# Altium schematic symbol library WE-LHMI.SchLib: 193 symbols (part 1 of 4)
Pins are listed as number, name and electrical type; pins without a type are passive.

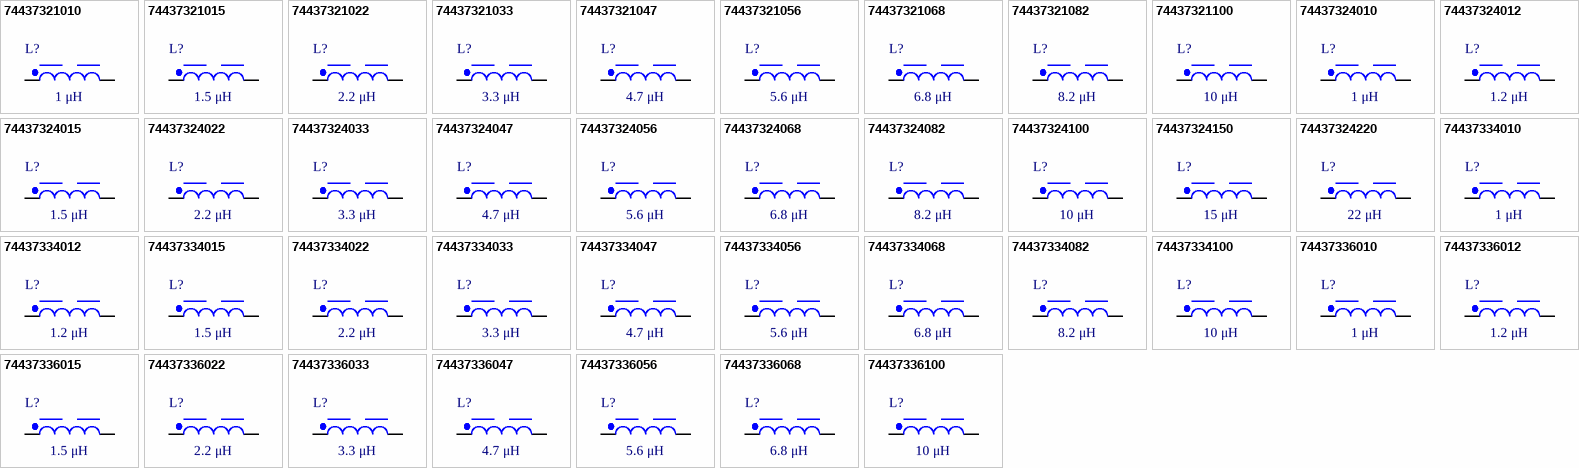
[diagram p0: symbols 74437321010 to 74437336100]

## 74437321010
designator L?, comment 1 μH
WE-LHMI SMT Power Inductor, size 4012, 1 μH, 4.5 A, 47 mΩ; Manufacturer Part Number: 74437321010; Manufacturer: Wurth Elektronik; Case/Size Code: 4012; DC Resistance Max: 47 mΩ; Performance Rated Current: 4.5 A; Saturation Current @ 10%: 5.65 A; Saturation Current @ 30%: 10 A; Self Resonant Frequency: 90 MHz; Category: Power Inductors; Match Code: WE-LHMI; ComponentLink1Description: Website Link; ComponentLink1URL: https://www.we-online.com/redexpert/article/74437321010?ad; ComponentLink2Description: Datasheet Link; ComponentLink2URL: https://www.we-online.com/redexpert/spec/74437321010?ad; Mount: Surface Mount; Min Operating Temperature: -40 °C; Max Operating Temperature: 125 °C; Packaging: Tape and Reel; Length: 4.45 mm; Width: 4.06 mm; Height: 1 mm; Inductance: 1 μH
footprint WE-LHMI_4012
simulation model 4012_74437321010_1u
pins: 1, 2

## 74437321015
designator L?, comment 1.5 μH
WE-LHMI SMT Power Inductor, size 4012, 1.5 μH, 3.9 A, 63.3 mΩ; Manufacturer Part Number: 74437321015; Manufacturer: Wurth Elektronik; Case/Size Code: 4012; DC Resistance Max: 63.3 mΩ; Performance Rated Current: 3.9 A; Saturation Current @ 10%: 2.7 A; Saturation Current @ 30%: 5.1 A; Self Resonant Frequency: 60 MHz; Category: Power Inductors; Match Code: WE-LHMI; ComponentLink1Description: Website Link; ComponentLink1URL: https://www.we-online.com/redexpert/article/74437321015?ad; ComponentLink2Description: Datasheet Link; ComponentLink2URL: https://www.we-online.com/redexpert/spec/74437321015?ad; Mount: Surface Mount; Min Operating Temperature: -40 °C; Max Operating Temperature: 125 °C; Packaging: Tape and Reel; Length: 4.45 mm; Width: 4.06 mm; Height: 1 mm; Inductance: 1.5 μH
footprint WE-LHMI_4012
simulation model 4012_74437321015_1.5u
pins: 1, 2

## 74437321022
designator L?, comment 2.2 μH
WE-LHMI SMT Power Inductor, size 4012, 2.2 μH, 3.5 A, 80 mΩ; Manufacturer Part Number: 74437321022; Manufacturer: Wurth Elektronik; Case/Size Code: 4012; DC Resistance Max: 80 mΩ; Performance Rated Current: 3.5 A; Saturation Current @ 10%: 3.2 A; Saturation Current @ 30%: 6.2 A; Self Resonant Frequency: 55 MHz; Category: Power Inductors; Match Code: WE-LHMI; ComponentLink1Description: Website Link; ComponentLink1URL: https://www.we-online.com/redexpert/article/74437321022?ad; ComponentLink2Description: Datasheet Link; ComponentLink2URL: https://www.we-online.com/redexpert/spec/74437321022?ad; Mount: Surface Mount; Min Operating Temperature: -40 °C; Max Operating Temperature: 125 °C; Packaging: Tape and Reel; Length: 4.45 mm; Width: 4.06 mm; Height: 1 mm; Inductance: 2.2 μH
footprint WE-LHMI_4012
simulation model 4012_74437321022_2.2u
pins: 1, 2

## 74437321033
designator L?, comment 3.3 μH
WE-LHMI SMT Power Inductor, size 4012, 3.3 μH, 3.15 A, 97 mΩ; Manufacturer Part Number: 74437321033; Manufacturer: Wurth Elektronik; Case/Size Code: 4012; DC Resistance Max: 97 mΩ; Performance Rated Current: 3.15 A; Saturation Current @ 10%: 2.6 A; Saturation Current @ 30%: 4.8 A; Self Resonant Frequency: 40 MHz; Category: Power Inductors; Match Code: WE-LHMI; ComponentLink1Description: Website Link; ComponentLink1URL: https://www.we-online.com/redexpert/article/74437321033?ad; ComponentLink2Description: Datasheet Link; ComponentLink2URL: https://www.we-online.com/redexpert/spec/74437321033?ad; Mount: Surface Mount; Min Operating Temperature: -40 °C; Max Operating Temperature: 125 °C; Packaging: Tape and Reel; Length: 4.45 mm; Width: 4.06 mm; Height: 1 mm; Inductance: 3.3 μH
footprint WE-LHMI_4012
simulation model 4012_74437321033_3.3u
pins: 1, 2

## 74437321047
designator L?, comment 4.7 μH
WE-LHMI SMT Power Inductor, size 4012, 4.7 μH, 2.55 A, 145 mΩ; Manufacturer Part Number: 74437321047; Manufacturer: Wurth Elektronik; Case/Size Code: 4012; DC Resistance Max: 145 mΩ; Performance Rated Current: 2.55 A; Saturation Current @ 10%: 2.1 A; Saturation Current @ 30%: 4.1 A; Self Resonant Frequency: 34 MHz; Category: Power Inductors; Match Code: WE-LHMI; ComponentLink1Description: Website Link; ComponentLink1URL: https://www.we-online.com/redexpert/article/74437321047?ad; ComponentLink2Description: Datasheet Link; ComponentLink2URL: https://www.we-online.com/redexpert/spec/74437321047?ad; Mount: Surface Mount; Min Operating Temperature: -40 °C; Max Operating Temperature: 125 °C; Packaging: Tape and Reel; Length: 4.45 mm; Width: 4.06 mm; Height: 1 mm; Inductance: 4.7 μH
footprint WE-LHMI_4012
simulation model 4012_74437321047_4.7u
pins: 1, 2

## 74437321056
designator L?, comment 5.6 μH
WE-LHMI SMT Power Inductor, size 4012, 5.6 μH, 2.15 A, 208 mΩ; Manufacturer Part Number: 74437321056; Manufacturer: Wurth Elektronik; Case/Size Code: 4012; DC Resistance Max: 208 mΩ; Performance Rated Current: 2.15 A; Saturation Current @ 10%: 1.95 A; Saturation Current @ 30%: 3.65 A; Self Resonant Frequency: 28 MHz; Category: Power Inductors; Match Code: WE-LHMI; ComponentLink1Description: Website Link; ComponentLink1URL: https://www.we-online.com/redexpert/article/74437321056?ad; ComponentLink2Description: Datasheet Link; ComponentLink2URL: https://www.we-online.com/redexpert/spec/74437321056?ad; Mount: Surface Mount; Min Operating Temperature: -40 °C; Max Operating Temperature: 125 °C; Packaging: Tape and Reel; Length: 4.45 mm; Width: 4.06 mm; Height: 1 mm; Inductance: 5.6 μH
footprint WE-LHMI_4012
simulation model 4012_74437321056_5.6u
pins: 1, 2

## 74437321068
designator L?, comment 6.8 μH
WE-LHMI SMT Power Inductor, size 4012, 6.8 μH, 1.65 A, 360 mΩ; Manufacturer Part Number: 74437321068; Manufacturer: Wurth Elektronik; Case/Size Code: 4012; DC Resistance Max: 360 mΩ; Performance Rated Current: 1.65 A; Saturation Current @ 30%: 3.05 A; Self Resonant Frequency: 25 MHz; Category: Power Inductors; Match Code: WE-LHMI; ComponentLink1Description: Website Link; ComponentLink1URL: https://www.we-online.com/redexpert/article/74437321068?ad; ComponentLink2Description: Datasheet Link; ComponentLink2URL: https://www.we-online.com/redexpert/spec/74437321068?ad; Mount: Surface Mount; Min Operating Temperature: -40 °C; Max Operating Temperature: 125 °C; Packaging: Tape and Reel; Length: 4.45 mm; Width: 4.06 mm; Height: 1 mm; Inductance: 6.8 μH; Saturation Current @ 10%: 1.65 A
footprint WE-LHMI_4012
simulation model 4012_74437321068_6.8u
pins: 1, 2

## 74437321082
designator L?, comment 8.2 μH
WE-LHMI SMT Power Inductor, size 4012, 8.2 μH, 1.6 A, 376 mΩ; Manufacturer Part Number: 74437321082; Manufacturer: Wurth Elektronik; Case/Size Code: 4012; DC Resistance Max: 376 mΩ; Performance Rated Current: 1.6 A; Saturation Current @ 10%: 1.65 A; Saturation Current @ 30%: 2.85 A; Self Resonant Frequency: 24 MHz; Category: Power Inductors; Match Code: WE-LHMI; ComponentLink1Description: Website Link; ComponentLink1URL: https://www.we-online.com/redexpert/article/74437321082?ad; ComponentLink2Description: Datasheet Link; ComponentLink2URL: https://www.we-online.com/redexpert/spec/74437321082?ad; Mount: Surface Mount; Min Operating Temperature: -40 °C; Max Operating Temperature: 125 °C; Packaging: Tape and Reel; Length: 4.45 mm; Width: 4.06 mm; Height: 1 mm; Inductance: 8.2 μH
footprint WE-LHMI_4012
simulation model 4012_74437321082_8.2u
pins: 1, 2

## 74437321100
designator L?, comment 10 μH
WE-LHMI SMT Power Inductor, size 4012, 10 μH, 1.4 A, 463 mΩ; Manufacturer Part Number: 74437321100; Manufacturer: Wurth Elektronik; Case/Size Code: 4012; DC Resistance Max: 463 mΩ; Performance Rated Current: 1.4 A; Saturation Current @ 10%: 1.5 A; Saturation Current @ 30%: 2.65 A; Self Resonant Frequency: 23 MHz; Category: Power Inductors; Match Code: WE-LHMI; ComponentLink1Description: Website Link; ComponentLink1URL: https://www.we-online.com/redexpert/article/74437321100?ad; ComponentLink2Description: Datasheet Link; ComponentLink2URL: https://www.we-online.com/redexpert/spec/74437321100?ad; Mount: Surface Mount; Min Operating Temperature: -40 °C; Max Operating Temperature: 125 °C; Packaging: Tape and Reel; Length: 4.45 mm; Width: 4.06 mm; Height: 1 mm; Inductance: 10 μH
footprint WE-LHMI_4012
simulation model 4012_74437321100_10u
pins: 1, 2

## 74437324010
designator L?, comment 1 μH
WE-LHMI SMT Power Inductor, size 4020, 1 μH, 6.2 A, 27 mΩ; Manufacturer Part Number: 74437324010; Manufacturer: Wurth Elektronik; Case/Size Code: 4020; DC Resistance Max: 27 mΩ; Performance Rated Current: 6.2 A; Saturation Current @ 10%: 6.5 A; Saturation Current @ 30%: 12.5 A; Self Resonant Frequency: 89 MHz; Category: Power Inductors; Match Code: WE-LHMI; ComponentLink1Description: Website Link; ComponentLink1URL: https://www.we-online.com/redexpert/article/74437324010?ad; ComponentLink2Description: Datasheet Link; ComponentLink2URL: https://www.we-online.com/redexpert/spec/74437324010?ad; Mount: Surface Mount; Min Operating Temperature: -40 °C; Max Operating Temperature: 125 °C; Packaging: Tape and Reel; Length: 4.45 mm; Width: 4.06 mm; Height: 1.8 mm; Inductance: 1 μH
footprint WE-LHMI_4020
simulation model 4020_74437324010_1u
pins: 1, 2

## 74437324012
designator L?, comment 1.2 μH
WE-LHMI SMT Power Inductor, size 4020, 1.2 μH, 5.85 A, 30 mΩ; Manufacturer Part Number: 74437324012; Manufacturer: Wurth Elektronik; Case/Size Code: 4020; DC Resistance Max: 30 mΩ; Performance Rated Current: 5.85 A; Saturation Current @ 10%: 6.3 A; Saturation Current @ 30%: 11.6 A; Self Resonant Frequency: 71 MHz; Category: Power Inductors; Match Code: WE-LHMI; ComponentLink1Description: Website Link; ComponentLink1URL: https://www.we-online.com/redexpert/article/74437324012?ad; ComponentLink2Description: Datasheet Link; ComponentLink2URL: https://www.we-online.com/redexpert/spec/74437324012?ad; Mount: Surface Mount; Min Operating Temperature: -40 °C; Max Operating Temperature: 125 °C; Packaging: Tape and Reel; Length: 4.45 mm; Width: 4.06 mm; Height: 1.8 mm; Inductance: 1.2 μH
footprint WE-LHMI_4020
simulation model 4020_74437324012_1.2u
pins: 1, 2

## 74437324015
designator L?, comment 1.5 μH
WE-LHMI SMT Power Inductor, size 4020, 1.5 μH, 4.9 A, 42 mΩ; Manufacturer Part Number: 74437324015; Manufacturer: Wurth Elektronik; Case/Size Code: 4020; DC Resistance Max: 42 mΩ; Performance Rated Current: 4.9 A; Saturation Current @ 10%: 5.65 A; Saturation Current @ 30%: 10.1 A; Self Resonant Frequency: 64 MHz; Category: Power Inductors; Match Code: WE-LHMI; ComponentLink1Description: Website Link; ComponentLink1URL: https://www.we-online.com/redexpert/article/74437324015?ad; ComponentLink2Description: Datasheet Link; ComponentLink2URL: https://www.we-online.com/redexpert/spec/74437324015?ad; Mount: Surface Mount; Min Operating Temperature: -40 °C; Max Operating Temperature: 125 °C; Packaging: Tape and Reel; Length: 4.45 mm; Width: 4.06 mm; Height: 1.8 mm; Inductance: 1.5 μH
footprint WE-LHMI_4020
simulation model 4020_74437324015_1.5u
pins: 1, 2

## 74437324022
designator L?, comment 2.2 μH
WE-LHMI SMT Power Inductor, size 4020, 2.2 μH, 4.05 A, 61 mΩ; Manufacturer Part Number: 74437324022; Manufacturer: Wurth Elektronik; Case/Size Code: 4020; DC Resistance Max: 61 mΩ; Performance Rated Current: 4.05 A; Saturation Current @ 10%: 4.45 A; Saturation Current @ 30%: 8.4 A; Self Resonant Frequency: 49 MHz; Category: Power Inductors; Match Code: WE-LHMI; ComponentLink1Description: Website Link; ComponentLink1URL: https://www.we-online.com/redexpert/article/74437324022?ad; ComponentLink2Description: Datasheet Link; ComponentLink2URL: https://www.we-online.com/redexpert/spec/74437324022?ad; Mount: Surface Mount; Min Operating Temperature: -40 °C; Max Operating Temperature: 125 °C; Packaging: Tape and Reel; Length: 4.45 mm; Width: 4.06 mm; Height: 1.8 mm; Inductance: 2.2 μH
footprint WE-LHMI_4020
simulation model 4020_74437324022_2.2u
pins: 1, 2

## 74437324033
designator L?, comment 3.3 μH
WE-LHMI SMT Power Inductor, size 4020, 3.3 μH, 3.5 A, 76 mΩ; Manufacturer Part Number: 74437324033; Manufacturer: Wurth Elektronik; Case/Size Code: 4020; DC Resistance Max: 76 mΩ; Performance Rated Current: 3.5 A; Saturation Current @ 10%: 2.75 A; Saturation Current @ 30%: 5.45 A; Self Resonant Frequency: 40 MHz; Category: Power Inductors; Match Code: WE-LHMI; ComponentLink1Description: Website Link; ComponentLink1URL: https://www.we-online.com/redexpert/article/74437324033?ad; ComponentLink2Description: Datasheet Link; ComponentLink2URL: https://www.we-online.com/redexpert/spec/74437324033?ad; Mount: Surface Mount; Min Operating Temperature: -40 °C; Max Operating Temperature: 125 °C; Packaging: Tape and Reel; Length: 4.45 mm; Width: 4.06 mm; Height: 1.8 mm; Inductance: 3.3 μH
footprint WE-LHMI_4020
simulation model 4020_74437324033_3.3u
pins: 1, 2

## 74437324047
designator L?, comment 4.7 μH
WE-LHMI SMT Power Inductor, size 4020, 4.7 μH, 2.95 A, 105 mΩ; Manufacturer Part Number: 74437324047; Manufacturer: Wurth Elektronik; Case/Size Code: 4020; DC Resistance Max: 105 mΩ; Performance Rated Current: 2.95 A; Saturation Current @ 10%: 2.45 A; Saturation Current @ 30%: 5.4 A; Self Resonant Frequency: 31 MHz; Category: Power Inductors; Match Code: WE-LHMI; ComponentLink1Description: Website Link; ComponentLink1URL: https://www.we-online.com/redexpert/article/74437324047?ad; ComponentLink2Description: Datasheet Link; ComponentLink2URL: https://www.we-online.com/redexpert/spec/74437324047?ad; Mount: Surface Mount; Min Operating Temperature: -40 °C; Max Operating Temperature: 125 °C; Packaging: Tape and Reel; Length: 4.45 mm; Width: 4.06 mm; Height: 1.8 mm; Inductance: 4.7 μH
footprint WE-LHMI_4020
simulation model 4020_74437324047_4.7u
pins: 1, 2

## 74437324056
designator L?, comment 5.6 μH
WE-LHMI SMT Power Inductor, size 4020, 5.6 μH, 2.6 A, 125 mΩ; Manufacturer Part Number: 74437324056; Manufacturer: Wurth Elektronik; Case/Size Code: 4020; DC Resistance Max: 125 mΩ; Performance Rated Current: 2.6 A; Saturation Current @ 10%: 2.4 A; Saturation Current @ 30%: 5.1 A; Self Resonant Frequency: 30 MHz; Category: Power Inductors; Match Code: WE-LHMI; ComponentLink1Description: Website Link; ComponentLink1URL: https://www.we-online.com/redexpert/article/74437324056?ad; ComponentLink2Description: Datasheet Link; ComponentLink2URL: https://www.we-online.com/redexpert/spec/74437324056?ad; Mount: Surface Mount; Min Operating Temperature: -40 °C; Max Operating Temperature: 125 °C; Packaging: Tape and Reel; Length: 4.45 mm; Width: 4.06 mm; Height: 1.8 mm; Inductance: 5.6 μH
footprint WE-LHMI_4020
simulation model 4020_74437324056_5.6u
pins: 1, 2

## 74437324068
designator L?, comment 6.8 μH
WE-LHMI SMT Power Inductor, size 4020, 6.8 μH, 2.35 A, 172 mΩ; Manufacturer Part Number: 74437324068; Manufacturer: Wurth Elektronik; Case/Size Code: 4020; DC Resistance Max: 172 mΩ; Performance Rated Current: 2.35 A; Saturation Current @ 10%: 2.4 A; Saturation Current @ 30%: 4.75 A; Self Resonant Frequency: 29 MHz; Category: Power Inductors; Match Code: WE-LHMI; ComponentLink1Description: Website Link; ComponentLink1URL: https://www.we-online.com/redexpert/article/74437324068?ad; ComponentLink2Description: Datasheet Link; ComponentLink2URL: https://www.we-online.com/redexpert/spec/74437324068?ad; Mount: Surface Mount; Min Operating Temperature: -40 °C; Max Operating Temperature: 125 °C; Packaging: Tape and Reel; Length: 4.45 mm; Width: 4.06 mm; Height: 1.8 mm; Inductance: 6.8 μH
footprint WE-LHMI_4020
simulation model 4020_74437324068_6.8u
pins: 1, 2

## 74437324082
designator L?, comment 8.2 μH
WE-LHMI SMT Power Inductor, size 4020, 8.2 μH, 2.3 A, 180 mΩ; Manufacturer Part Number: 74437324082; Manufacturer: Wurth Elektronik; Case/Size Code: 4020; DC Resistance Max: 180 mΩ; Performance Rated Current: 2.3 A; Saturation Current @ 10%: 1.8 A; Saturation Current @ 30%: 3.8 A; Self Resonant Frequency: 22 MHz; Category: Power Inductors; Match Code: WE-LHMI; ComponentLink1Description: Website Link; ComponentLink1URL: https://www.we-online.com/redexpert/article/74437324082?ad; ComponentLink2Description: Datasheet Link; ComponentLink2URL: https://www.we-online.com/redexpert/spec/74437324082?ad; Mount: Surface Mount; Min Operating Temperature: -40 °C; Max Operating Temperature: 125 °C; Packaging: Tape and Reel; Length: 4.45 mm; Width: 4.06 mm; Height: 1.8 mm; Inductance: 8.2 μH
footprint WE-LHMI_4020
simulation model 4020_74437324082_8.2u
pins: 1, 2

## 74437324100
designator L?, comment 10 μH
WE-LHMI SMT Power Inductor, size 4020, 10 μH, 1.95 A, 243 mΩ; Manufacturer Part Number: 74437324100; Manufacturer: Wurth Elektronik; Case/Size Code: 4020; DC Resistance Max: 243 mΩ; Performance Rated Current: 1.95 A; Saturation Current @ 10%: 1.5 A; Saturation Current @ 30%: 3.15 A; Self Resonant Frequency: 23 MHz; Category: Power Inductors; Match Code: WE-LHMI; ComponentLink1Description: Website Link; ComponentLink1URL: https://www.we-online.com/redexpert/article/74437324100?ad; ComponentLink2Description: Datasheet Link; ComponentLink2URL: https://www.we-online.com/redexpert/spec/74437324100?ad; Mount: Surface Mount; Min Operating Temperature: -40 °C; Max Operating Temperature: 125 °C; Packaging: Tape and Reel; Length: 4.45 mm; Width: 4.06 mm; Height: 1.8 mm; Inductance: 10 μH
footprint WE-LHMI_4020
simulation model 4020_74437324100_10u
pins: 1, 2

## 74437324150
designator L?, comment 15 μH
WE-LHMI SMT Power Inductor, size 4020, 15 μH, 1.6 A, 374 mΩ; Manufacturer Part Number: 74437324150; Manufacturer: Wurth Elektronik; Case/Size Code: 4020; DC Resistance Max: 374 mΩ; Performance Rated Current: 1.6 A; Saturation Current @ 10%: 1.35 A; Saturation Current @ 30%: 2.75 A; Self Resonant Frequency: 17 MHz; Category: Power Inductors; Match Code: WE-LHMI; ComponentLink1Description: Website Link; ComponentLink1URL: https://www.we-online.com/redexpert/article/74437324150?ad; ComponentLink2Description: Datasheet Link; ComponentLink2URL: https://www.we-online.com/redexpert/spec/74437324150?ad; Mount: Surface Mount; Min Operating Temperature: -40 °C; Max Operating Temperature: 125 °C; Packaging: Tape and Reel; Length: 4.45 mm; Width: 4.06 mm; Height: 1.8 mm; Inductance: 15 μH
footprint WE-LHMI_4020
simulation model 4020_74437324150_15u
pins: 1, 2

## 74437324220
designator L?, comment 22 μH
WE-LHMI SMT Power Inductor, size 4020, 22 μH, 1.3 A, 500 mΩ; Manufacturer Part Number: 74437324220; Manufacturer: Wurth Elektronik; Case/Size Code: 4020; DC Resistance Max: 500 mΩ; Performance Rated Current: 1.3 A; Saturation Current @ 10%: 1.45 A; Saturation Current @ 30%: 2.35 A; Self Resonant Frequency: 14 MHz; Category: Power Inductors; Match Code: WE-LHMI; ComponentLink1Description: Website Link; ComponentLink1URL: https://www.we-online.com/redexpert/article/74437324220?ad; ComponentLink2Description: Datasheet Link; ComponentLink2URL: https://www.we-online.com/redexpert/spec/74437324220?ad; Mount: Surface Mount; Min Operating Temperature: -40 °C; Max Operating Temperature: 125 °C; Packaging: Tape and Reel; Length: 4.45 mm; Width: 4.06 mm; Height: 1.8 mm; Inductance: 22 μH
footprint WE-LHMI_4020
simulation model 4020_74437324220_22u
pins: 1, 2

## 74437334010
designator L?, comment 1 μH
WE-LHMI SMT Power Inductor, size 5020, 1 μH, 7.4 A, 20 mΩ; Manufacturer Part Number: 74437334010; Manufacturer: Wurth Elektronik; Case/Size Code: 5020; DC Resistance Max: 20 mΩ; Performance Rated Current: 7.4 A; Saturation Current @ 10%: 9.2 A; Saturation Current @ 30%: 17.7 A; Self Resonant Frequency: 65 MHz; Category: Power Inductors; Match Code: WE-LHMI; ComponentLink1Description: Website Link; ComponentLink1URL: https://www.we-online.com/redexpert/article/74437334010?ad; ComponentLink2Description: Datasheet Link; ComponentLink2URL: https://www.we-online.com/redexpert/spec/74437334010?ad; Mount: Surface Mount; Min Operating Temperature: -40 °C; Max Operating Temperature: 125 °C; Packaging: Tape and Reel; Length: 5.7 mm; Width: 5.2 mm; Height: 1.8 mm; Inductance: 1 μH
footprint WE-LHMI_5020
simulation model 5020_74437334010_1u
pins: 1, 2

## 74437334012
designator L?, comment 1.2 μH
WE-LHMI SMT Power Inductor, size 5020, 1.2 μH, 6.4 A, 28 mΩ; Manufacturer Part Number: 74437334012; Manufacturer: Wurth Elektronik; Case/Size Code: 5020; DC Resistance Max: 28 mΩ; Performance Rated Current: 6.4 A; Saturation Current @ 10%: 7.5 A; Saturation Current @ 30%: 14 A; Self Resonant Frequency: 60 MHz; Category: Power Inductors; Match Code: WE-LHMI; ComponentLink1Description: Website Link; ComponentLink1URL: https://www.we-online.com/redexpert/article/74437334012?ad; ComponentLink2Description: Datasheet Link; ComponentLink2URL: https://www.we-online.com/redexpert/spec/74437334012?ad; Mount: Surface Mount; Min Operating Temperature: -40 °C; Max Operating Temperature: 125 °C; Packaging: Tape and Reel; Length: 5.7 mm; Width: 5.2 mm; Height: 1.8 mm; Inductance: 1.2 μH
footprint WE-LHMI_5020
simulation model 5020_74437334012_1.2u
pins: 1, 2

## 74437334015
designator L?, comment 1.5 μH
WE-LHMI SMT Power Inductor, size 5020, 1.5 μH, 6 A, 30.5 mΩ; Manufacturer Part Number: 74437334015; Manufacturer: Wurth Elektronik; Case/Size Code: 5020; DC Resistance Max: 30.5 mΩ; Performance Rated Current: 6 A; Saturation Current @ 10%: 6.6 A; Saturation Current @ 30%: 13.6 A; Self Resonant Frequency: 50 MHz; Category: Power Inductors; Match Code: WE-LHMI; ComponentLink1Description: Website Link; ComponentLink1URL: https://www.we-online.com/redexpert/article/74437334015?ad; ComponentLink2Description: Datasheet Link; ComponentLink2URL: https://www.we-online.com/redexpert/spec/74437334015?ad; Mount: Surface Mount; Min Operating Temperature: -40 °C; Max Operating Temperature: 125 °C; Packaging: Tape and Reel; Length: 5.7 mm; Width: 5.2 mm; Height: 1.8 mm; Inductance: 1.5 μH
footprint WE-LHMI_5020
simulation model 5020_74437334015_1.5u
pins: 1, 2

## 74437334022
designator L?, comment 2.2 μH
WE-LHMI SMT Power Inductor, size 5020, 2.2 μH, 4.75 A, 50 mΩ; Manufacturer Part Number: 74437334022; Manufacturer: Wurth Elektronik; Case/Size Code: 5020; DC Resistance Max: 50 mΩ; Performance Rated Current: 4.75 A; Saturation Current @ 10%: 6.4 A; Saturation Current @ 30%: 11.9 A; Self Resonant Frequency: 46 MHz; Category: Power Inductors; Match Code: WE-LHMI; ComponentLink1Description: Website Link; ComponentLink1URL: https://www.we-online.com/redexpert/article/74437334022?ad; ComponentLink2Description: Datasheet Link; ComponentLink2URL: https://www.we-online.com/redexpert/spec/74437334022?ad; Mount: Surface Mount; Min Operating Temperature: -40 °C; Max Operating Temperature: 125 °C; Packaging: Tape and Reel; Length: 5.7 mm; Width: 5.2 mm; Height: 1.8 mm; Inductance: 2.2 μH
footprint WE-LHMI_5020
simulation model 5020_74437334022_2.2u
pins: 1, 2

## 74437334033
designator L?, comment 3.3 μH
WE-LHMI SMT Power Inductor, size 5020, 3.3 μH, 3.75 A, 76 mΩ; Manufacturer Part Number: 74437334033; Manufacturer: Wurth Elektronik; Case/Size Code: 5020; DC Resistance Max: 76 mΩ; Performance Rated Current: 3.75 A; Saturation Current @ 10%: 5.25 A; Saturation Current @ 30%: 9.6 A; Self Resonant Frequency: 35 MHz; Category: Power Inductors; Match Code: WE-LHMI; ComponentLink1Description: Website Link; ComponentLink1URL: https://www.we-online.com/redexpert/article/74437334033?ad; ComponentLink2Description: Datasheet Link; ComponentLink2URL: https://www.we-online.com/redexpert/spec/74437334033?ad; Mount: Surface Mount; Min Operating Temperature: -40 °C; Max Operating Temperature: 125 °C; Packaging: Tape and Reel; Length: 5.7 mm; Width: 5.2 mm; Height: 1.8 mm; Inductance: 3.3 μH
footprint WE-LHMI_5020
simulation model 5020_74437334033_3.3u
pins: 1, 2

## 74437334047
designator L?, comment 4.7 μH
WE-LHMI SMT Power Inductor, size 5020, 4.7 μH, 3 A, 116 mΩ; Manufacturer Part Number: 74437334047; Manufacturer: Wurth Elektronik; Case/Size Code: 5020; DC Resistance Max: 116 mΩ; Performance Rated Current: 3 A; Saturation Current @ 10%: 4.1 A; Saturation Current @ 30%: 7.5 A; Self Resonant Frequency: 27 MHz; Category: Power Inductors; Match Code: WE-LHMI; ComponentLink1Description: Website Link; ComponentLink1URL: https://www.we-online.com/redexpert/article/74437334047?ad; ComponentLink2Description: Datasheet Link; ComponentLink2URL: https://www.we-online.com/redexpert/spec/74437334047?ad; Mount: Surface Mount; Min Operating Temperature: -40 °C; Max Operating Temperature: 125 °C; Packaging: Tape and Reel; Length: 5.7 mm; Width: 5.2 mm; Height: 1.8 mm; Inductance: 4.7 μH
footprint WE-LHMI_5020
simulation model 5020_74437334047_4.7u
pins: 1, 2

## 74437334056
designator L?, comment 5.6 μH
WE-LHMI SMT Power Inductor, size 5020, 5.6 μH, 2.85 A, 122 mΩ; Manufacturer Part Number: 74437334056; Manufacturer: Wurth Elektronik; Case/Size Code: 5020; DC Resistance Max: 122 mΩ; Performance Rated Current: 2.85 A; Saturation Current @ 10%: 3.7 A; Saturation Current @ 30%: 7 A; Self Resonant Frequency: 21 MHz; Category: Power Inductors; Match Code: WE-LHMI; ComponentLink1Description: Website Link; ComponentLink1URL: https://www.we-online.com/redexpert/article/74437334056?ad; ComponentLink2Description: Datasheet Link; ComponentLink2URL: https://www.we-online.com/redexpert/spec/74437334056?ad; Mount: Surface Mount; Min Operating Temperature: -40 °C; Max Operating Temperature: 125 °C; Packaging: Tape and Reel; Length: 5.7 mm; Width: 5.2 mm; Height: 1.8 mm; Inductance: 5.6 μH
footprint WE-LHMI_5020
simulation model 5020_74437334056_5.6u
pins: 1, 2

## 74437334068
designator L?, comment 6.8 μH
WE-LHMI SMT Power Inductor, size 5020, 6.8 μH, 2.65 A, 150 mΩ; Manufacturer Part Number: 74437334068; Manufacturer: Wurth Elektronik; Case/Size Code: 5020; DC Resistance Max: 150 mΩ; Performance Rated Current: 2.65 A; Saturation Current @ 10%: 3.05 A; Saturation Current @ 30%: 5.55 A; Self Resonant Frequency: 20.5 MHz; Category: Power Inductors; Match Code: WE-LHMI; ComponentLink1Description: Website Link; ComponentLink1URL: https://www.we-online.com/redexpert/article/74437334068?ad; ComponentLink2Description: Datasheet Link; ComponentLink2URL: https://www.we-online.com/redexpert/spec/74437334068?ad; Mount: Surface Mount; Min Operating Temperature: -40 °C; Max Operating Temperature: 125 °C; Packaging: Tape and Reel; Length: 5.7 mm; Width: 5.2 mm; Height: 1.8 mm; Inductance: 6.8 μH
footprint WE-LHMI_5020
simulation model 5020_74437334068_6.8u
pins: 1, 2

## 74437334082
designator L?, comment 8.2 μH
WE-LHMI SMT Power Inductor, size 5020, 8.2 μH, 2.5 A, 171 mΩ; Manufacturer Part Number: 74437334082; Manufacturer: Wurth Elektronik; Case/Size Code: 5020; DC Resistance Max: 171 mΩ; Performance Rated Current: 2.5 A; Saturation Current @ 10%: 3 A; Saturation Current @ 30%: 5.65 A; Self Resonant Frequency: 20 MHz; Category: Power Inductors; Match Code: WE-LHMI; ComponentLink1Description: Website Link; ComponentLink1URL: https://www.we-online.com/redexpert/article/74437334082?ad; ComponentLink2Description: Datasheet Link; ComponentLink2URL: https://www.we-online.com/redexpert/spec/74437334082?ad; Mount: Surface Mount; Min Operating Temperature: -40 °C; Max Operating Temperature: 125 °C; Packaging: Tape and Reel; Length: 5.7 mm; Width: 5.2 mm; Height: 1.8 mm; Inductance: 8.2 μH
footprint WE-LHMI_5020
simulation model 5020_74437334082_8.2u
pins: 1, 2

## 74437334100
designator L?, comment 10 μH
WE-LHMI SMT Power Inductor, size 5020, 10 μH, 2.25 A, 199 mΩ; Manufacturer Part Number: 74437334100; Manufacturer: Wurth Elektronik; Case/Size Code: 5020; DC Resistance Max: 199 mΩ; Performance Rated Current: 2.25 A; Saturation Current @ 10%: 2.7 A; Saturation Current @ 30%: 5.15 A; Self Resonant Frequency: 16 MHz; Category: Power Inductors; Match Code: WE-LHMI; ComponentLink1Description: Website Link; ComponentLink1URL: https://www.we-online.com/redexpert/article/74437334100?ad; ComponentLink2Description: Datasheet Link; ComponentLink2URL: https://www.we-online.com/redexpert/spec/74437334100?ad; Mount: Surface Mount; Min Operating Temperature: -40 °C; Max Operating Temperature: 125 °C; Packaging: Tape and Reel; Length: 5.7 mm; Width: 5.2 mm; Height: 1.8 mm; Inductance: 10 μH
footprint WE-LHMI_5020
simulation model 5020_74437334100_10u
pins: 1, 2

## 74437336010
designator L?, comment 1 μH
WE-LHMI SMT Power Inductor, size 5030, 1 μH, 8.6 A, 14 mΩ; Manufacturer Part Number: 74437336010; Manufacturer: Wurth Elektronik; Case/Size Code: 5030; DC Resistance Max: 14 mΩ; Performance Rated Current: 8.6 A; Saturation Current @ 10%: 7.4 A; Saturation Current @ 30%: 14.2 A; Self Resonant Frequency: 60 MHz; Category: Power Inductors; Match Code: WE-LHMI; ComponentLink1Description: Website Link; ComponentLink1URL: https://www.we-online.com/redexpert/article/74437336010?ad; ComponentLink2Description: Datasheet Link; ComponentLink2URL: https://www.we-online.com/redexpert/spec/74437336010?ad; Mount: Surface Mount; Min Operating Temperature: -40 °C; Max Operating Temperature: 125 °C; Packaging: Tape and Reel; Length: 5.7 mm; Width: 5.2 mm; Height: 2.8 mm; Inductance: 1 μH
footprint WE-LHMI_5030
simulation model 5030_74437336010_1u
pins: 1, 2

## 74437336012
designator L?, comment 1.2 μH
WE-LHMI SMT Power Inductor, size 5030, 1.2 μH, 8.3 A, 16 mΩ; Manufacturer Part Number: 74437336012; Manufacturer: Wurth Elektronik; Case/Size Code: 5030; DC Resistance Max: 16 mΩ; Performance Rated Current: 8.3 A; Saturation Current @ 10%: 7.5 A; Saturation Current @ 30%: 13.9 A; Self Resonant Frequency: 50 MHz; Category: Power Inductors; Match Code: WE-LHMI; ComponentLink1Description: Website Link; ComponentLink1URL: https://www.we-online.com/redexpert/article/74437336012?ad; ComponentLink2Description: Datasheet Link; ComponentLink2URL: https://www.we-online.com/redexpert/spec/74437336012?ad; Mount: Surface Mount; Min Operating Temperature: -40 °C; Max Operating Temperature: 125 °C; Packaging: Tape and Reel; Length: 5.7 mm; Width: 5.2 mm; Height: 2.8 mm; Inductance: 1.2 μH
footprint WE-LHMI_5030
simulation model 5030_74437336012_1.2u
pins: 1, 2

## 74437336015
designator L?, comment 1.5 μH
WE-LHMI SMT Power Inductor, size 5030, 1.5 μH, 7.8 A, 25 mΩ; Manufacturer Part Number: 74437336015; Manufacturer: Wurth Elektronik; Case/Size Code: 5030; DC Resistance Max: 25 mΩ; Performance Rated Current: 7.8 A; Saturation Current @ 10%: 7.7 A; Saturation Current @ 30%: 14.2 A; Self Resonant Frequency: 45 MHz; Category: Power Inductors; Match Code: WE-LHMI; ComponentLink1Description: Website Link; ComponentLink1URL: https://www.we-online.com/redexpert/article/74437336015?ad; ComponentLink2Description: Datasheet Link; ComponentLink2URL: https://www.we-online.com/redexpert/spec/74437336015?ad; Mount: Surface Mount; Min Operating Temperature: -40 °C; Max Operating Temperature: 125 °C; Packaging: Tape and Reel; Length: 5.7 mm; Width: 5.2 mm; Height: 2.8 mm; Inductance: 1.5 μH
footprint WE-LHMI_5030
simulation model 5030_74437336015_1.5u
pins: 1, 2

## 74437336022
designator L?, comment 2.2 μH
WE-LHMI SMT Power Inductor, size 5030, 2.2 μH, 6.2 A, 35 mΩ; Manufacturer Part Number: 74437336022; Manufacturer: Wurth Elektronik; Case/Size Code: 5030; DC Resistance Max: 35 mΩ; Performance Rated Current: 6.2 A; Saturation Current @ 10%: 7 A; Saturation Current @ 30%: 14 A; Self Resonant Frequency: 42 MHz; Category: Power Inductors; Match Code: WE-LHMI; ComponentLink1Description: Website Link; ComponentLink1URL: https://www.we-online.com/redexpert/article/74437336022?ad; ComponentLink2Description: Datasheet Link; ComponentLink2URL: https://www.we-online.com/redexpert/spec/74437336022?ad; Mount: Surface Mount; Min Operating Temperature: -40 °C; Max Operating Temperature: 125 °C; Packaging: Tape and Reel; Length: 5.7 mm; Width: 5.2 mm; Height: 2.8 mm; Inductance: 2.2 μH
footprint WE-LHMI_5030
simulation model 5030_74437336022_2.2u
pins: 1, 2

## 74437336033
designator L?, comment 3.3 μH
WE-LHMI SMT Power Inductor, size 5030, 3.3 μH, 5.45 A, 38 mΩ; Manufacturer Part Number: 74437336033; Manufacturer: Wurth Elektronik; Case/Size Code: 5030; DC Resistance Max: 38 mΩ; Performance Rated Current: 5.45 A; Saturation Current @ 10%: 5.55 A; Saturation Current @ 30%: 10.9 A; Self Resonant Frequency: 27 MHz; Category: Power Inductors; Match Code: WE-LHMI; ComponentLink1Description: Website Link; ComponentLink1URL: https://www.we-online.com/redexpert/article/74437336033?ad; ComponentLink2Description: Datasheet Link; ComponentLink2URL: https://www.we-online.com/redexpert/spec/74437336033?ad; Mount: Surface Mount; Min Operating Temperature: -40 °C; Max Operating Temperature: 125 °C; Packaging: Tape and Reel; Length: 5.7 mm; Width: 5.2 mm; Height: 2.8 mm; Inductance: 3.3 μH
footprint WE-LHMI_5030
simulation model 5030_74437336033_3.3u
pins: 1, 2

## 74437336047
designator L?, comment 4.7 μH
WE-LHMI SMT Power Inductor, size 5030, 4.7 μH, 4.35 A, 53 mΩ; Manufacturer Part Number: 74437336047; Manufacturer: Wurth Elektronik; Case/Size Code: 5030; DC Resistance Max: 53 mΩ; Performance Rated Current: 4.35 A; Saturation Current @ 10%: 3.85 A; Saturation Current @ 30%: 7.6 A; Self Resonant Frequency: 25 MHz; Category: Power Inductors; Match Code: WE-LHMI; ComponentLink1Description: Website Link; ComponentLink1URL: https://www.we-online.com/redexpert/article/74437336047?ad; ComponentLink2Description: Datasheet Link; ComponentLink2URL: https://www.we-online.com/redexpert/spec/74437336047?ad; Mount: Surface Mount; Min Operating Temperature: -40 °C; Max Operating Temperature: 125 °C; Packaging: Tape and Reel; Length: 5.7 mm; Width: 5.2 mm; Height: 2.8 mm; Inductance: 4.7 μH
footprint WE-LHMI_5030
simulation model 5030_74437336047_4.7u
pins: 1, 2

## 74437336056
designator L?, comment 5.6 μH
WE-LHMI SMT Power Inductor, size 5030, 5.6 μH, 4.15 A, 63 mΩ; Manufacturer Part Number: 74437336056; Manufacturer: Wurth Elektronik; Case/Size Code: 5030; DC Resistance Max: 63 mΩ; Performance Rated Current: 4.15 A; Saturation Current @ 10%: 3.85 A; Saturation Current @ 30%: 7.7 A; Self Resonant Frequency: 22 MHz; Category: Power Inductors; Match Code: WE-LHMI; ComponentLink1Description: Website Link; ComponentLink1URL: https://www.we-online.com/redexpert/article/74437336056?ad; ComponentLink2Description: Datasheet Link; ComponentLink2URL: https://www.we-online.com/redexpert/spec/74437336056?ad; Mount: Surface Mount; Min Operating Temperature: -40 °C; Max Operating Temperature: 125 °C; Packaging: Tape and Reel; Length: 5.7 mm; Width: 5.2 mm; Height: 2.8 mm; Inductance: 5.6 μH
footprint WE-LHMI_5030
simulation model 5030_74437336056_5.6u
pins: 1, 2

## 74437336068
designator L?, comment 6.8 μH
WE-LHMI SMT Power Inductor, size 5030, 6.8 μH, 3.75 A, 76.2 mΩ; Manufacturer Part Number: 74437336068; Manufacturer: Wurth Elektronik; Case/Size Code: 5030; DC Resistance Max: 76.2 mΩ; Performance Rated Current: 3.75 A; Saturation Current @ 10%: 2.9 A; Saturation Current @ 30%: 5.9 A; Self Resonant Frequency: 20 MHz; Category: Power Inductors; Match Code: WE-LHMI; ComponentLink1Description: Website Link; ComponentLink1URL: https://www.we-online.com/redexpert/article/74437336068?ad; ComponentLink2Description: Datasheet Link; ComponentLink2URL: https://www.we-online.com/redexpert/spec/74437336068?ad; Mount: Surface Mount; Min Operating Temperature: -40 °C; Max Operating Temperature: 125 °C; Packaging: Tape and Reel; Length: 5.7 mm; Width: 5.2 mm; Height: 2.8 mm; Inductance: 6.8 μH
footprint WE-LHMI_5030
simulation model 5030_74437336068_6.8u
pins: 1, 2

## 74437336100
designator L?, comment 10 μH
WE-LHMI SMT Power Inductor, size 5030, 10 μH, 2.9 A, 128 mΩ; Manufacturer Part Number: 74437336100; Manufacturer: Wurth Elektronik; Case/Size Code: 5030; DC Resistance Max: 128 mΩ; Performance Rated Current: 2.9 A; Saturation Current @ 10%: 2.8 A; Saturation Current @ 30%: 5.35 A; Self Resonant Frequency: 16 MHz; Category: Power Inductors; Match Code: WE-LHMI; ComponentLink1Description: Website Link; ComponentLink1URL: https://www.we-online.com/redexpert/article/74437336100?ad; ComponentLink2Description: Datasheet Link; ComponentLink2URL: https://www.we-online.com/redexpert/spec/74437336100?ad; Mount: Surface Mount; Min Operating Temperature: -40 °C; Max Operating Temperature: 125 °C; Packaging: Tape and Reel; Length: 5.7 mm; Width: 5.2 mm; Height: 2.8 mm; Inductance: 10 μH
footprint WE-LHMI_5030
simulation model 5030_74437336100_10u
pins: 1, 2

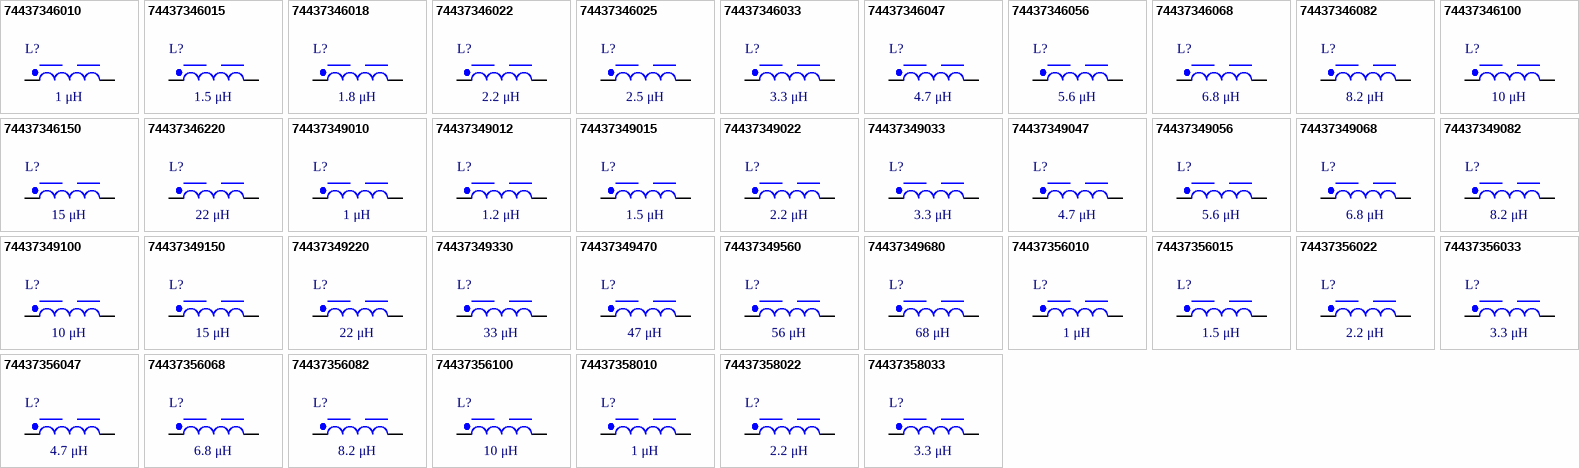
[diagram p1: symbols 74437346010 to 74437358033]

## 74437346010
designator L?, comment 1 μH
WE-LHMI SMT Power Inductor, size 7030, 1 μH, 11.4 A, 10 mΩ; Manufacturer Part Number: 74437346010; Manufacturer: Wurth Elektronik; Case/Size Code: 7030; DC Resistance Max: 10 mΩ; Performance Rated Current: 11.4 A; Saturation Current @ 10%: 14.7 A; Saturation Current @ 30%: 29 A; Self Resonant Frequency: 54 MHz; Category: Power Inductors; Match Code: WE-LHMI; ComponentLink1Description: Website Link; ComponentLink1URL: https://www.we-online.com/redexpert/article/74437346010?ad; ComponentLink2Description: Datasheet Link; ComponentLink2URL: https://www.we-online.com/redexpert/spec/74437346010?ad; Mount: Surface Mount; Min Operating Temperature: -40 °C; Max Operating Temperature: 125 °C; Packaging: Tape and Reel; Length: 7.3 mm; Width: 6.6 mm; Height: 2.8 mm; Inductance: 1 μH
footprint WE-LHMI_7030
simulation model 7030_74437346010_1u
pins: 1, 2

## 74437346015
designator L?, comment 1.5 μH
WE-LHMI SMT Power Inductor, size 7030, 1.5 μH, 9.1 A, 15 mΩ; Manufacturer Part Number: 74437346015; Manufacturer: Wurth Elektronik; Case/Size Code: 7030; DC Resistance Max: 15 mΩ; Performance Rated Current: 9.1 A; Saturation Current @ 10%: 11.2 A; Saturation Current @ 30%: 27.6 A; Self Resonant Frequency: 45 MHz; Category: Power Inductors; Match Code: WE-LHMI; ComponentLink1Description: Website Link; ComponentLink1URL: https://www.we-online.com/redexpert/article/74437346015?ad; ComponentLink2Description: Datasheet Link; ComponentLink2URL: https://www.we-online.com/redexpert/spec/74437346015?ad; Mount: Surface Mount; Min Operating Temperature: -40 °C; Max Operating Temperature: 125 °C; Packaging: Tape and Reel; Length: 7.3 mm; Width: 6.6 mm; Height: 2.8 mm; Inductance: 1.5 μH
footprint WE-LHMI_7030
simulation model 7030_74437346015_1.5u
pins: 1, 2

## 74437346018
designator L?, comment 1.8 μH
WE-LHMI SMT Power Inductor, size 7030, 1.8 μH, 8.8 A, 17 mΩ; Manufacturer Part Number: 74437346018; Manufacturer: Wurth Elektronik; Case/Size Code: 7030; DC Resistance Max: 17 mΩ; Performance Rated Current: 8.8 A; Saturation Current @ 10%: 10.2 A; Saturation Current @ 30%: 21.4 A; Self Resonant Frequency: 35 MHz; Category: Power Inductors; Match Code: WE-LHMI; ComponentLink1Description: Website Link; ComponentLink1URL: https://www.we-online.com/redexpert/article/74437346018?ad; ComponentLink2Description: Datasheet Link; ComponentLink2URL: https://www.we-online.com/redexpert/spec/74437346018?ad; Mount: Surface Mount; Min Operating Temperature: -40 °C; Max Operating Temperature: 125 °C; Packaging: Tape and Reel; Length: 7.3 mm; Width: 6.6 mm; Height: 2.8 mm; Inductance: 1.8 μH
footprint WE-LHMI_7030
simulation model 7030_74437346018_1.8u
pins: 1, 2

## 74437346022
designator L?, comment 2.2 μH
WE-LHMI SMT Power Inductor, size 7030, 2.2 μH, 7.7 A, 20 mΩ; Manufacturer Part Number: 74437346022; Manufacturer: Wurth Elektronik; Case/Size Code: 7030; DC Resistance Max: 20 mΩ; Performance Rated Current: 7.7 A; Saturation Current @ 10%: 10 A; Saturation Current @ 30%: 19.1 A; Self Resonant Frequency: 32 MHz; Category: Power Inductors; Match Code: WE-LHMI; ComponentLink1Description: Website Link; ComponentLink1URL: https://www.we-online.com/redexpert/article/74437346022?ad; ComponentLink2Description: Datasheet Link; ComponentLink2URL: https://www.we-online.com/redexpert/spec/74437346022?ad; Mount: Surface Mount; Min Operating Temperature: -40 °C; Max Operating Temperature: 125 °C; Packaging: Tape and Reel; Length: 7.3 mm; Width: 6.6 mm; Height: 2.8 mm; Inductance: 2.2 μH
footprint WE-LHMI_7030
simulation model 7030_74437346022_2.2u
pins: 1, 2

## 74437346025
designator L?, comment 2.5 μH
WE-LHMI SMT Power Inductor, size 7030, 2.5 μH, 7.3 A, 22 mΩ; Manufacturer Part Number: 74437346025; Manufacturer: Wurth Elektronik; Case/Size Code: 7030; DC Resistance Max: 22 mΩ; Performance Rated Current: 7.3 A; Saturation Current @ 10%: 8.5 A; Saturation Current @ 30%: 17.3 A; Self Resonant Frequency: 30 MHz; Category: Power Inductors; Match Code: WE-LHMI; ComponentLink1Description: Website Link; ComponentLink1URL: https://www.we-online.com/redexpert/article/74437346025?ad; ComponentLink2Description: Datasheet Link; ComponentLink2URL: https://www.we-online.com/redexpert/spec/74437346025?ad; Mount: Surface Mount; Min Operating Temperature: -40 °C; Max Operating Temperature: 125 °C; Packaging: Tape and Reel; Length: 7.3 mm; Width: 6.6 mm; Height: 2.8 mm; Inductance: 2.5 μH
footprint WE-LHMI_7030
simulation model 7030_74437346025_2.5u
pins: 1, 2

## 74437346033
designator L?, comment 3.3 μH
WE-LHMI SMT Power Inductor, size 7030, 3.3 μH, 6.2 A, 30 mΩ; Manufacturer Part Number: 74437346033; Manufacturer: Wurth Elektronik; Case/Size Code: 7030; DC Resistance Max: 30 mΩ; Performance Rated Current: 6.2 A; Saturation Current @ 10%: 8.4 A; Saturation Current @ 30%: 16.6 A; Self Resonant Frequency: 27 MHz; Category: Power Inductors; Match Code: WE-LHMI; ComponentLink1Description: Website Link; ComponentLink1URL: https://www.we-online.com/redexpert/article/74437346033?ad; ComponentLink2Description: Datasheet Link; ComponentLink2URL: https://www.we-online.com/redexpert/spec/74437346033?ad; Mount: Surface Mount; Min Operating Temperature: -40 °C; Max Operating Temperature: 125 °C; Packaging: Tape and Reel; Length: 7.3 mm; Width: 6.6 mm; Height: 2.8 mm; Inductance: 3.3 μH
footprint WE-LHMI_7030
simulation model 7030_74437346033_3.3u
pins: 1, 2

## 74437346047
designator L?, comment 4.7 μH
WE-LHMI SMT Power Inductor, size 7030, 4.7 μH, 5.35 A, 40 mΩ; Manufacturer Part Number: 74437346047; Manufacturer: Wurth Elektronik; Case/Size Code: 7030; DC Resistance Max: 40 mΩ; Performance Rated Current: 5.35 A; Saturation Current @ 10%: 7.5 A; Saturation Current @ 30%: 15.5 A; Self Resonant Frequency: 22 MHz; Category: Power Inductors; Match Code: WE-LHMI; ComponentLink1Description: Website Link; ComponentLink1URL: https://www.we-online.com/redexpert/article/74437346047?ad; ComponentLink2Description: Datasheet Link; ComponentLink2URL: https://www.we-online.com/redexpert/spec/74437346047?ad; Mount: Surface Mount; Min Operating Temperature: -40 °C; Max Operating Temperature: 125 °C; Packaging: Tape and Reel; Length: 7.3 mm; Width: 6.6 mm; Height: 2.8 mm; Inductance: 4.7 μH
footprint WE-LHMI_7030
simulation model 7030_74437346047_4.7u
pins: 1, 2

## 74437346056
designator L?, comment 5.6 μH
WE-LHMI SMT Power Inductor, size 7030, 5.6 μH, 5 A, 48 mΩ; Manufacturer Part Number: 74437346056; Manufacturer: Wurth Elektronik; Case/Size Code: 7030; DC Resistance Max: 48 mΩ; Performance Rated Current: 5 A; Saturation Current @ 10%: 5.9 A; Saturation Current @ 30%: 12.1 A; Self Resonant Frequency: 20 MHz; Category: Power Inductors; Match Code: WE-LHMI; ComponentLink1Description: Website Link; ComponentLink1URL: https://www.we-online.com/redexpert/article/74437346056?ad; ComponentLink2Description: Datasheet Link; ComponentLink2URL: https://www.we-online.com/redexpert/spec/74437346056?ad; Mount: Surface Mount; Min Operating Temperature: -40 °C; Max Operating Temperature: 125 °C; Packaging: Tape and Reel; Length: 7.3 mm; Width: 6.6 mm; Height: 2.8 mm; Inductance: 5.6 μH
footprint WE-LHMI_7030
simulation model 7030_74437346056_5.6u
pins: 1, 2

## 74437346068
designator L?, comment 6.8 μH
WE-LHMI SMT Power Inductor, size 7030, 6.8 μH, 4.45 A, 60 mΩ; Manufacturer Part Number: 74437346068; Manufacturer: Wurth Elektronik; Case/Size Code: 7030; DC Resistance Max: 60 mΩ; Performance Rated Current: 4.45 A; Saturation Current @ 10%: 5.45 A; Saturation Current @ 30%: 10.6 A; Self Resonant Frequency: 18 MHz; Category: Power Inductors; Match Code: WE-LHMI; ComponentLink1Description: Website Link; ComponentLink1URL: https://www.we-online.com/redexpert/article/74437346068?ad; ComponentLink2Description: Datasheet Link; ComponentLink2URL: https://www.we-online.com/redexpert/spec/74437346068?ad; Mount: Surface Mount; Min Operating Temperature: -40 °C; Max Operating Temperature: 125 °C; Packaging: Tape and Reel; Length: 7.3 mm; Width: 6.6 mm; Height: 2.8 mm; Inductance: 6.8 μH
footprint WE-LHMI_7030
simulation model 7030_74437346068_6.8u
pins: 1, 2

## 74437346082
designator L?, comment 8.2 μH
WE-LHMI SMT Power Inductor, size 7030, 8.2 μH, 4.1 A, 68 mΩ; Manufacturer Part Number: 74437346082; Manufacturer: Wurth Elektronik; Case/Size Code: 7030; DC Resistance Max: 68 mΩ; Performance Rated Current: 4.1 A; Saturation Current @ 10%: 5.1 A; Saturation Current @ 30%: 10.1 A; Self Resonant Frequency: 17 MHz; Category: Power Inductors; Match Code: WE-LHMI; ComponentLink1Description: Website Link; ComponentLink1URL: https://www.we-online.com/redexpert/article/74437346082?ad; ComponentLink2Description: Datasheet Link; ComponentLink2URL: https://www.we-online.com/redexpert/spec/74437346082?ad; Mount: Surface Mount; Min Operating Temperature: -40 °C; Max Operating Temperature: 125 °C; Packaging: Tape and Reel; Length: 7.3 mm; Width: 6.6 mm; Height: 2.8 mm; Inductance: 8.2 μH
footprint WE-LHMI_7030
simulation model 7030_74437346082_8.2u
pins: 1, 2

## 74437346100
designator L?, comment 10 μH
WE-LHMI SMT Power Inductor, size 7030, 10 μH, 3.75 A, 85 mΩ; Manufacturer Part Number: 74437346100; Manufacturer: Wurth Elektronik; Case/Size Code: 7030; DC Resistance Max: 85 mΩ; Performance Rated Current: 3.75 A; Saturation Current @ 10%: 5 A; Saturation Current @ 30%: 9.8 A; Self Resonant Frequency: 15 MHz; Category: Power Inductors; Match Code: WE-LHMI; ComponentLink1Description: Website Link; ComponentLink1URL: https://www.we-online.com/redexpert/article/74437346100?ad; ComponentLink2Description: Datasheet Link; ComponentLink2URL: https://www.we-online.com/redexpert/spec/74437346100?ad; Mount: Surface Mount; Min Operating Temperature: -40 °C; Max Operating Temperature: 125 °C; Packaging: Tape and Reel; Length: 7.3 mm; Width: 6.6 mm; Height: 2.8 mm; Inductance: 10 μH
footprint WE-LHMI_7030
simulation model 7030_74437346100_10u
pins: 1, 2

## 74437346150
designator L?, comment 15 μH
WE-LHMI SMT Power Inductor, size 7030, 15 μH, 3.15 A, 123 mΩ; Manufacturer Part Number: 74437346150; Manufacturer: Wurth Elektronik; Case/Size Code: 7030; DC Resistance Max: 123 mΩ; Performance Rated Current: 3.15 A; Saturation Current @ 10%: 3.2 A; Saturation Current @ 30%: 6.1 A; Self Resonant Frequency: 12 MHz; Category: Power Inductors; Match Code: WE-LHMI; ComponentLink1Description: Website Link; ComponentLink1URL: https://www.we-online.com/redexpert/article/74437346150?ad; ComponentLink2Description: Datasheet Link; ComponentLink2URL: https://www.we-online.com/redexpert/spec/74437346150?ad; Mount: Surface Mount; Min Operating Temperature: -40 °C; Max Operating Temperature: 125 °C; Packaging: Tape and Reel; Length: 7.3 mm; Width: 6.6 mm; Height: 2.8 mm; Inductance: 15 μH
footprint WE-LHMI_7030
simulation model 7030_74437346150_15u
pins: 1, 2

## 74437346220
designator L?, comment 22 μH
WE-LHMI SMT Power Inductor, size 7030, 22 μH, 2.5 A, 190 mΩ; Manufacturer Part Number: 74437346220; Manufacturer: Wurth Elektronik; Case/Size Code: 7030; DC Resistance Max: 190 mΩ; Performance Rated Current: 2.5 A; Saturation Current @ 10%: 2.75 A; Saturation Current @ 30%: 5.95 A; Self Resonant Frequency: 10 MHz; Category: Power Inductors; Match Code: WE-LHMI; ComponentLink1Description: Website Link; ComponentLink1URL: https://www.we-online.com/redexpert/article/74437346220?ad; ComponentLink2Description: Datasheet Link; ComponentLink2URL: https://www.we-online.com/redexpert/spec/74437346220?ad; Mount: Surface Mount; Min Operating Temperature: -40 °C; Max Operating Temperature: 125 °C; Packaging: Tape and Reel; Length: 7.3 mm; Width: 6.6 mm; Height: 2.8 mm; Inductance: 22 μH
footprint WE-LHMI_7030
simulation model 7030_74437346220_22u
pins: 1, 2

## 74437349010
designator L?, comment 1 μH
WE-LHMI SMT Power Inductor, size 7050, 1 μH, 13.4 A, 6.5 mΩ; Manufacturer Part Number: 74437349010; Manufacturer: Wurth Elektronik; Case/Size Code: 7050; DC Resistance Max: 6.5 mΩ; Performance Rated Current: 13.4 A; Saturation Current @ 10%: 13 A; Saturation Current @ 30%: 25.8 A; Self Resonant Frequency: 51 MHz; Category: Power Inductors; Match Code: WE-LHMI; ComponentLink1Description: Website Link; ComponentLink1URL: https://www.we-online.com/redexpert/article/74437349010?ad; ComponentLink2Description: Datasheet Link; ComponentLink2URL: https://www.we-online.com/redexpert/spec/74437349010?ad; Mount: Surface Mount; Min Operating Temperature: -40 °C; Max Operating Temperature: 125 °C; Packaging: Tape and Reel; Length: 7.3 mm; Width: 6.6 mm; Height: 4.8 mm; Inductance: 1 μH
footprint WE-LHMI_7050
simulation model 7050_74437349010_1u
pins: 1, 2

## 74437349012
designator L?, comment 1.2 μH
WE-LHMI SMT Power Inductor, size 7050, 1.2 μH, 12.4 A, 7.5 mΩ; Manufacturer Part Number: 74437349012; Manufacturer: Wurth Elektronik; Case/Size Code: 7050; DC Resistance Max: 7.5 mΩ; Performance Rated Current: 12.4 A; Saturation Current @ 10%: 12 A; Saturation Current @ 30%: 24 A; Self Resonant Frequency: 45 MHz; Category: Power Inductors; Match Code: WE-LHMI; ComponentLink1Description: Website Link; ComponentLink1URL: https://www.we-online.com/redexpert/article/74437349012?ad; ComponentLink2Description: Datasheet Link; ComponentLink2URL: https://www.we-online.com/redexpert/spec/74437349012?ad; Mount: Surface Mount; Min Operating Temperature: -40 °C; Max Operating Temperature: 125 °C; Packaging: Tape and Reel; Length: 7.3 mm; Width: 6.6 mm; Height: 4.8 mm; Inductance: 1.2 μH
footprint WE-LHMI_7050
simulation model 7050_74437349012_1.2u
pins: 1, 2